# Altium footprint library LM2596_display.PcbLib: 1 footprints
Each footprint in its own frame and in the unit in brackets; x right, y up, seen from the top. Pads: shape width x height; smd on the part's side, far side on the other; paste and mask are expansions set on the pad; w line width, h text height; cw(c..) or ccw(c..) is an arc to the next point about the centre after c.
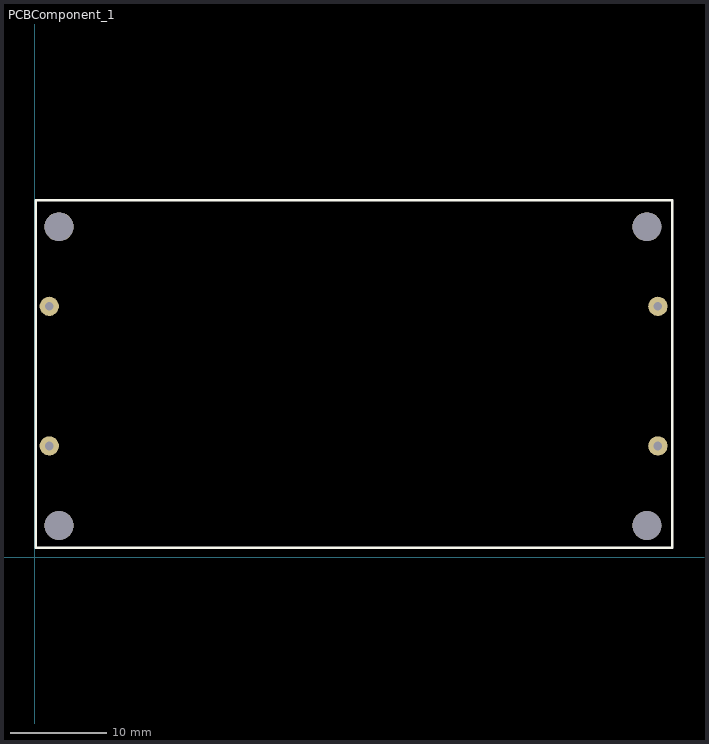
[diagram p0: the footprint, top view; thin cyan lines are the x and y axes]

## PCBComponent_1 [mm]
pads (8):
  round 2 hole 0.9 unplated: ""(1.524,11.557) ""(1.524,26.035) ""(64.643,11.557) ""(64.643,26.035)
  round 3 hole 3 unplated: ""(2.54,3.302) ""(2.54,34.29) ""(63.5,3.302) ""(63.5,34.29)
Top Overlay:
  lines w0.254: 0.127,1.016 66.127,1.016 66.127,37.016 0.127,37.016 0.127,1.016
3D body "LM2596 Buck Converter 4.0-40 to 1.3-37V.STEP": height 13.15, standoff -4.5, extent 0.147,0.923 66.147,36.923